# Altium integrated library Linear Technology Power Management LDO Linear Regulators.IntLib: 2339 symbols (part 127 of 131)
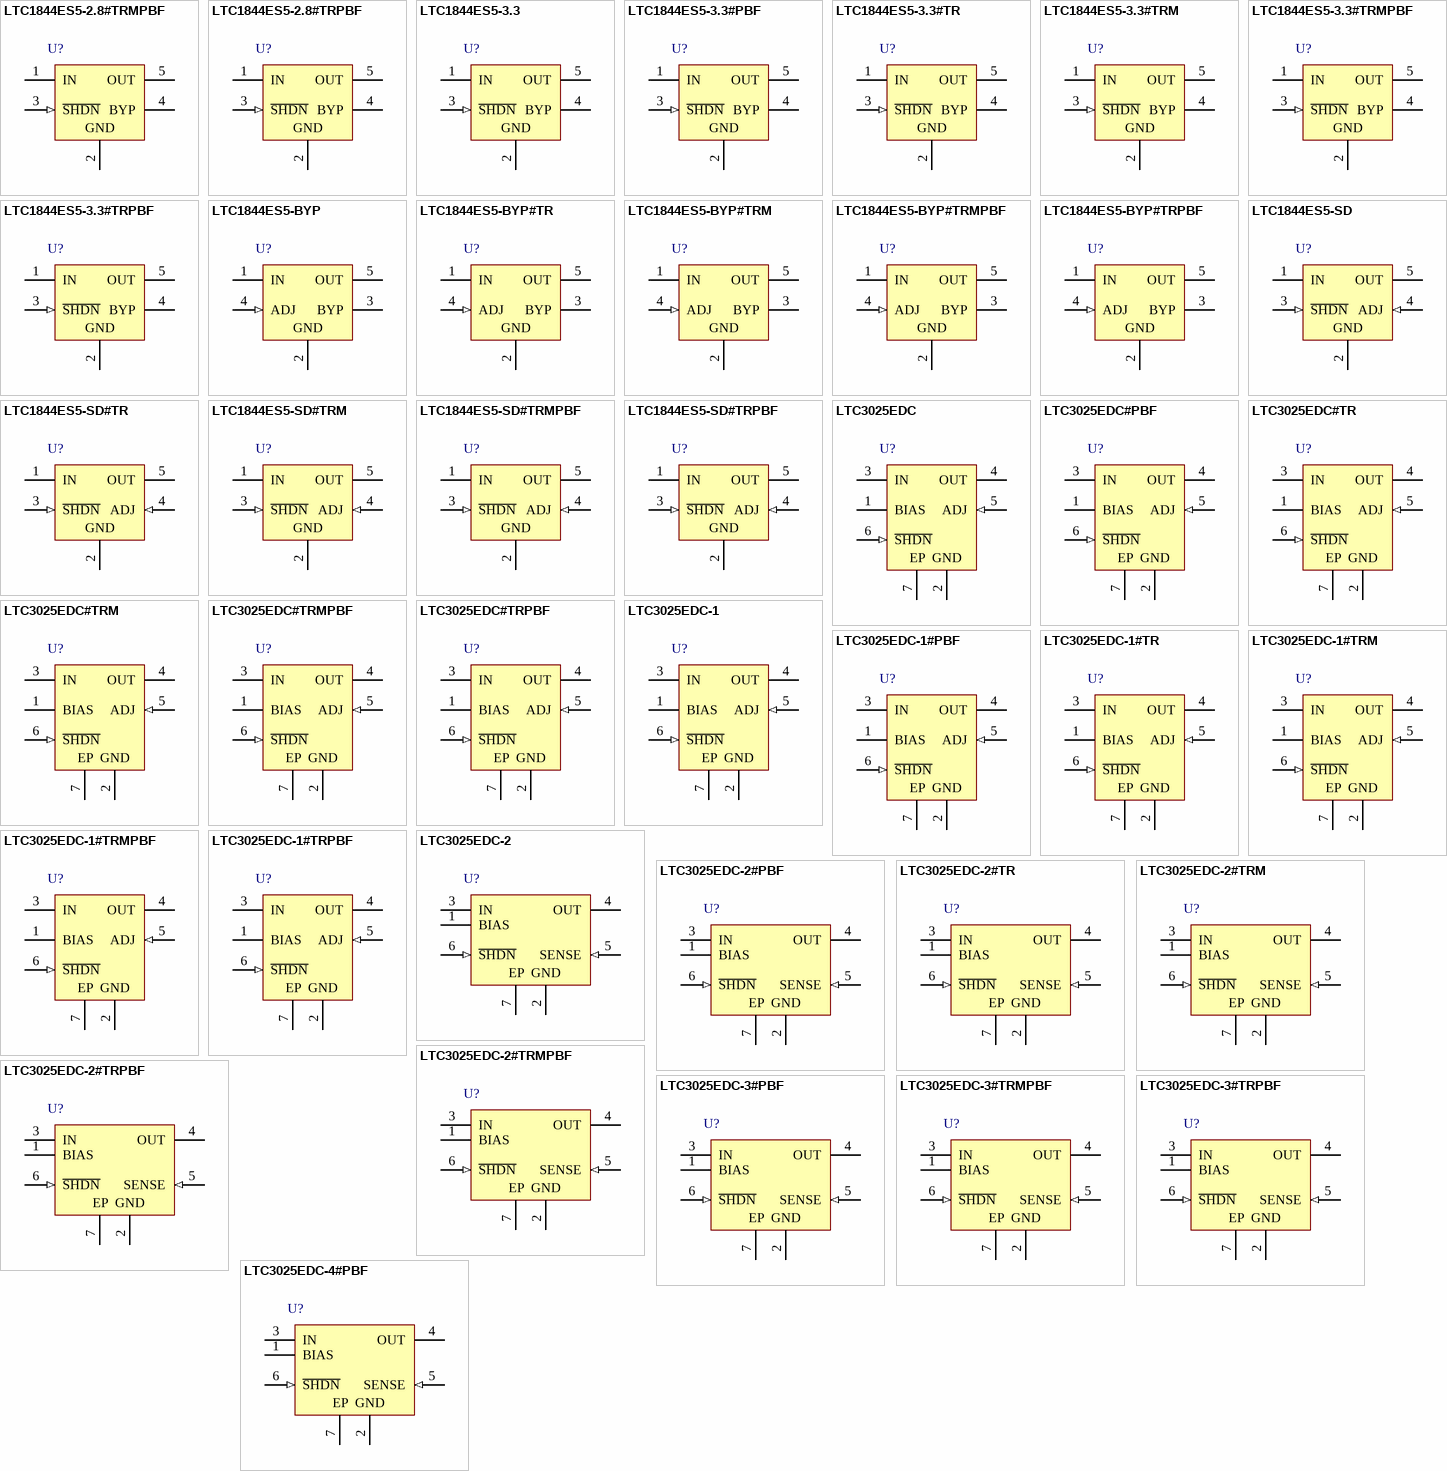
[diagram p195: symbols LTC1844ES5-2.8#TRMPBF to LTC3025EDC-4#PBF]

## LTC1844ES5-SD#TRPBF
designator U?
150 mA, Micropower, Low Noise, VLDO Linear Regulator, 1.6 to 6.5 V Vin, Adjustable Vout, 5-pin SOT23 (S5-5), -40 to 125 degC, Pb-Free, Tape and Reel; Manufacturer: Linear Technology; PartNumber: LTC1844ES5-SD#TRPBF; Discrete Pass Element: no; Dropout Voltage(V): 0.135; Iout(mA): 150; Isupply(mA): 0.035; Noise(uV): 60; Number of Outputs: 1; Output Voltage: Adj; PSRR(dB): 50; Shutdown Current(uA): 0.01; Vin Max(V): 6.5; Vin Min(V): 1.6; Vout Max(V): 6; Vout Min(V): 1.25; DatasheetVersion: Rev. A; PackageVersion: Jun-10; PackageReference: S5-5; PackageDescription: 5-Pin Plastic TSOT-23, Body 1.63 x 2.90 mm, Pitch 0.95 mm; Supplier 1: Digi-Key; Supplier Part Number 1: LTC1844ES5-SD#TRPBF-ND; Supplier 2: Newark; Supplier Part Number 2: 56M3912; Packing: Tape and Reel; RoHS: TRUE; Mounting Technology: Surface Mount; Code_JEDEC: MO-193; ComponentLink1Description: Manufacturer URL; ComponentLink1URL: http://www.linear.com/; ComponentLink2Description: Datasheet; ComponentLink2URL: http://cds.linear.com/docs/en/datasheet/1844fa.pdf; ComponentLink3Description: Package Specification; ComponentLink3URL: http://cds.linear.com/docs/en/packaging/SOT_5_05-08-1635.pdf
footprint LT-S5-5-TSOT-23_N (SOT23, 5-Leads, Body 2.90x1.63mm, Pitch 0.95mm, IPC Medium Density)
footprint LT-S5-5-TSOT-23_L (SOT23, 5-Leads, Body 2.90x1.63mm, Pitch 0.95mm, IPC High Density)
footprint LT-S5-5-TSOT-23_M (SOT23, 5-Leads, Body 2.90x1.63mm, Pitch 0.95mm, IPC Low Density)
pins: 1 IN (power), 2 GND (power), 3 ~{SHDN} (in), 4 ADJ (in), 5 OUT (power)

## LTC3025EDC
designator U?
300 mA Micropower VLDO Linear Regulator, 0.9 to 5.5 V Vin, Adjustable Vout, 6-pin SON (DC6-6), -40 to 125 degC; Manufacturer: Linear Technology; PartNumber: LTC3025EDC; Discrete Pass Element: no; Dropout Voltage(V): 0.045; Iout(mA): 300; Isupply(mA): 0.054; Noise(uV): 80; Number of Outputs: 1; Output Voltage: Adj; Vin Max(V): 5.5; Vin Min(V): 0.9; Vout Max(V): 3.6; Vout Min(V): 0.4; DatasheetVersion: Rev. D; PackageVersion: Rev. B, 06/2010; PackageReference: DC6-6; PackageDescription: 6-Pin Plastic DFN, Body 2 x 2 mm, Pitch 0.5 mm; RoHS: FALSE; Shutdown Current(uA): 1; Mounting Technology: Surface Mount; Code_JEDEC: MO-229; ComponentLink1Description: Manufacturer URL; ComponentLink1URL: http://www.linear.com/; ComponentLink2Description: Datasheet; ComponentLink2URL: http://cds.linear.com/docs/en/datasheet/3025fd.pdf; ComponentLink3Description: Package Specification; ComponentLink3URL: http://cds.linear.com/docs/en/packaging/DFN_6_05-08-1703.pdf
footprint LT-DC6-6_V (SON, 6-Leads, Body 2x2mm, Pitch 0.5mm, Thermal Pad 1.42x0.61mm)
pins: 1 BIAS (power) "BIAS Input Voltage. BIAS provides internal power for LTC3025 circuitry. The BIAS pin should be locally bypassed to ground if the LTC3025 is more than a few inches away from another source of bulk capacitance. In general, the (See Datasheet)", 2 GND (power) "Ground. Connect to a ground plane.", 3 IN (power) "Input Supply Voltage. The output load current is supplied directly from IN. The IN pin should be locally bypassed to ground if the LTC3025 is more than a few inches away from another source of bulk capacitance. In general, (See Datasheet)", 4 OUT (power) "Regulated Output Voltage. The OUT pin supplies power to the load. A minimum ceramic output capacitor of at least 1uF is required to ensure stability. Larger output capacitors may be required for applications with large (See Datasheet)", 5 ADJ (in) "Adjust Input. This is the input to the error amplifier. The ADJ pin reference voltage is 0.4V referenced to ground. The output voltage range is 0.4V to 3.6V and is typically set by connecting ADJ to a resistor divider from (See Datasheet)", 6 ~{SHDN} (in) "Shutdown Input, Active Low. This pin is used to put the LTC3025 into shutdown. The S\H\D\N\ pin current is typically less than 10nA. The S\H\D\N\ pin cannot be left floating and must be tied to a valid logic level (such as (See Datasheet)", 7 EP (power) "Ground and Heat Sink. Must be soldered to PCB ground plane or large pad for optimal thermal performance."

## LTC3025EDC#PBF
designator U?
300 mA Micropower VLDO Linear Regulator, 0.9 to 5.5 V Vin, Adjustable Vout, 6-pin SON (DC6-6), -40 to 125 degC, Pb-Free; Manufacturer: Linear Technology; PartNumber: LTC3025EDC#PBF; Discrete Pass Element: no; Dropout Voltage(V): 0.045; Iout(mA): 300; Isupply(mA): 0.054; Noise(uV): 80; Number of Outputs: 1; Output Voltage: Adj; Vin Max(V): 5.5; Vin Min(V): 0.9; Vout Max(V): 3.6; Vout Min(V): 0.4; DatasheetVersion: Rev. D; PackageVersion: Rev. B, 06/2010; PackageReference: DC6-6; PackageDescription: 6-Pin Plastic DFN, Body 2 x 2 mm, Pitch 0.5 mm; Supplier 1: Farnell; Supplier Part Number 1: 2128791; Supplier 2: Newark; Supplier Part Number 2: 78T3135; RoHS: TRUE; Shutdown Current(uA): 1; Mounting Technology: Surface Mount; Code_JEDEC: MO-229; ComponentLink1Description: Manufacturer URL; ComponentLink1URL: http://www.linear.com/; ComponentLink2Description: Datasheet; ComponentLink2URL: http://cds.linear.com/docs/en/datasheet/3025fd.pdf; ComponentLink3Description: Package Specification; ComponentLink3URL: http://cds.linear.com/docs/en/packaging/DFN_6_05-08-1703.pdf
footprint LT-DC6-6_V (SON, 6-Leads, Body 2x2mm, Pitch 0.5mm, Thermal Pad 1.42x0.61mm)
pins: 1 BIAS (power) "BIAS Input Voltage. BIAS provides internal power for LTC3025 circuitry. The BIAS pin should be locally bypassed to ground if the LTC3025 is more than a few inches away from another source of bulk capacitance. In general, the (See Datasheet)", 2 GND (power) "Ground. Connect to a ground plane.", 3 IN (power) "Input Supply Voltage. The output load current is supplied directly from IN. The IN pin should be locally bypassed to ground if the LTC3025 is more than a few inches away from another source of bulk capacitance. In general, (See Datasheet)", 4 OUT (power) "Regulated Output Voltage. The OUT pin supplies power to the load. A minimum ceramic output capacitor of at least 1uF is required to ensure stability. Larger output capacitors may be required for applications with large (See Datasheet)", 5 ADJ (in) "Adjust Input. This is the input to the error amplifier. The ADJ pin reference voltage is 0.4V referenced to ground. The output voltage range is 0.4V to 3.6V and is typically set by connecting ADJ to a resistor divider from (See Datasheet)", 6 ~{SHDN} (in) "Shutdown Input, Active Low. This pin is used to put the LTC3025 into shutdown. The S\H\D\N\ pin current is typically less than 10nA. The S\H\D\N\ pin cannot be left floating and must be tied to a valid logic level (such as (See Datasheet)", 7 EP (power) "Ground and Heat Sink. Must be soldered to PCB ground plane or large pad for optimal thermal performance."

## LTC3025EDC#TR
designator U?
300 mA Micropower VLDO Linear Regulator, 0.9 to 5.5 V Vin, Adjustable Vout, 6-pin SON (DC6-6), -40 to 125 degC, Tape and Reel; Manufacturer: Linear Technology; PartNumber: LTC3025EDC#TR; Discrete Pass Element: no; Dropout Voltage(V): 0.045; Iout(mA): 300; Isupply(mA): 0.054; Noise(uV): 80; Number of Outputs: 1; Output Voltage: Adj; Vin Max(V): 5.5; Vin Min(V): 0.9; Vout Max(V): 3.6; Vout Min(V): 0.4; DatasheetVersion: Rev. D; PackageVersion: Rev. B, 06/2010; PackageReference: DC6-6; PackageDescription: 6-Pin Plastic DFN, Body 2 x 2 mm, Pitch 0.5 mm; Supplier 1: Digi-Key; Supplier Part Number 1: LTC3025EDC#TR-ND; Supplier 2: Newark; Supplier Part Number 2: 56M7301; Packing: Tape and Reel; RoHS: FALSE; Shutdown Current(uA): 1; Mounting Technology: Surface Mount; Code_JEDEC: MO-229; ComponentLink1Description: Manufacturer URL; ComponentLink1URL: http://www.linear.com/; ComponentLink2Description: Datasheet; ComponentLink2URL: http://cds.linear.com/docs/en/datasheet/3025fd.pdf; ComponentLink3Description: Package Specification; ComponentLink3URL: http://cds.linear.com/docs/en/packaging/DFN_6_05-08-1703.pdf
footprint LT-DC6-6_V (SON, 6-Leads, Body 2x2mm, Pitch 0.5mm, Thermal Pad 1.42x0.61mm)
pins: 1 BIAS (power) "BIAS Input Voltage. BIAS provides internal power for LTC3025 circuitry. The BIAS pin should be locally bypassed to ground if the LTC3025 is more than a few inches away from another source of bulk capacitance. In general, the (See Datasheet)", 2 GND (power) "Ground. Connect to a ground plane.", 3 IN (power) "Input Supply Voltage. The output load current is supplied directly from IN. The IN pin should be locally bypassed to ground if the LTC3025 is more than a few inches away from another source of bulk capacitance. In general, (See Datasheet)", 4 OUT (power) "Regulated Output Voltage. The OUT pin supplies power to the load. A minimum ceramic output capacitor of at least 1uF is required to ensure stability. Larger output capacitors may be required for applications with large (See Datasheet)", 5 ADJ (in) "Adjust Input. This is the input to the error amplifier. The ADJ pin reference voltage is 0.4V referenced to ground. The output voltage range is 0.4V to 3.6V and is typically set by connecting ADJ to a resistor divider from (See Datasheet)", 6 ~{SHDN} (in) "Shutdown Input, Active Low. This pin is used to put the LTC3025 into shutdown. The S\H\D\N\ pin current is typically less than 10nA. The S\H\D\N\ pin cannot be left floating and must be tied to a valid logic level (such as (See Datasheet)", 7 EP (power) "Ground and Heat Sink. Must be soldered to PCB ground plane or large pad for optimal thermal performance."

## LTC3025EDC#TRM
designator U?
300 mA Micropower VLDO Linear Regulator, 0.9 to 5.5 V Vin, Adjustable Vout, 6-pin SON (DC6-6), -40 to 125 degC, Mini Tape and Reel; Manufacturer: Linear Technology; PartNumber: LTC3025EDC#TRM; Discrete Pass Element: no; Dropout Voltage(V): 0.045; Iout(mA): 300; Isupply(mA): 0.054; Noise(uV): 80; Number of Outputs: 1; Output Voltage: Adj; Vin Max(V): 5.5; Vin Min(V): 0.9; Vout Max(V): 3.6; Vout Min(V): 0.4; DatasheetVersion: Rev. D; PackageVersion: Rev. B, 06/2010; PackageReference: DC6-6; PackageDescription: 6-Pin Plastic DFN, Body 2 x 2 mm, Pitch 0.5 mm; Supplier 1: Digi-Key; Supplier Part Number 1: LTC3025EDC#TRM-ND; Supplier 2: Newark; Supplier Part Number 2: 56M7302; Packing: Mini Tape and Reel; RoHS: FALSE; Shutdown Current(uA): 1; Mounting Technology: Surface Mount; Code_JEDEC: MO-229; ComponentLink1Description: Manufacturer URL; ComponentLink1URL: http://www.linear.com/; ComponentLink2Description: Datasheet; ComponentLink2URL: http://cds.linear.com/docs/en/datasheet/3025fd.pdf; ComponentLink3Description: Package Specification; ComponentLink3URL: http://cds.linear.com/docs/en/packaging/DFN_6_05-08-1703.pdf
footprint LT-DC6-6_V (SON, 6-Leads, Body 2x2mm, Pitch 0.5mm, Thermal Pad 1.42x0.61mm)
pins: 1 BIAS (power) "BIAS Input Voltage. BIAS provides internal power for LTC3025 circuitry. The BIAS pin should be locally bypassed to ground if the LTC3025 is more than a few inches away from another source of bulk capacitance. In general, the (See Datasheet)", 2 GND (power) "Ground. Connect to a ground plane.", 3 IN (power) "Input Supply Voltage. The output load current is supplied directly from IN. The IN pin should be locally bypassed to ground if the LTC3025 is more than a few inches away from another source of bulk capacitance. In general, (See Datasheet)", 4 OUT (power) "Regulated Output Voltage. The OUT pin supplies power to the load. A minimum ceramic output capacitor of at least 1uF is required to ensure stability. Larger output capacitors may be required for applications with large (See Datasheet)", 5 ADJ (in) "Adjust Input. This is the input to the error amplifier. The ADJ pin reference voltage is 0.4V referenced to ground. The output voltage range is 0.4V to 3.6V and is typically set by connecting ADJ to a resistor divider from (See Datasheet)", 6 ~{SHDN} (in) "Shutdown Input, Active Low. This pin is used to put the LTC3025 into shutdown. The S\H\D\N\ pin current is typically less than 10nA. The S\H\D\N\ pin cannot be left floating and must be tied to a valid logic level (such as (See Datasheet)", 7 EP (power) "Ground and Heat Sink. Must be soldered to PCB ground plane or large pad for optimal thermal performance."

## LTC3025EDC#TRMPBF
designator U?
300 mA Micropower VLDO Linear Regulator, 0.9 to 5.5 V Vin, Adjustable Vout, 6-pin SON (DC6-6), -40 to 125 degC, Pb-Free, Mini Tape and Reel; Manufacturer: Linear Technology; PartNumber: LTC3025EDC#TRMPBF; Discrete Pass Element: no; Dropout Voltage(V): 0.045; Iout(mA): 300; Isupply(mA): 0.054; Noise(uV): 80; Number of Outputs: 1; Output Voltage: Adj; Vin Max(V): 5.5; Vin Min(V): 0.9; Vout Max(V): 3.6; Vout Min(V): 0.4; DatasheetVersion: Rev. D; PackageVersion: Rev. B, 06/2010; PackageReference: DC6-6; PackageDescription: 6-Pin Plastic DFN, Body 2 x 2 mm, Pitch 0.5 mm; Supplier 1: Digi-Key; Supplier Part Number 1: LTC3025EDC#TRMPBFTR-ND; Supplier 2: Digi-Key; Supplier Part Number 2: LTC3025EDC#TRMPBFCT-ND; Supplier 3: Digi-Key; Supplier Part Number 3: LTC3025EDC#TRMPBFDKR-ND; Supplier 4: Newark; Supplier Part Number 4: 56M7303; Packing: Mini Tape and Reel; RoHS: TRUE; Shutdown Current(uA): 1; Mounting Technology: Surface Mount; Code_JEDEC: MO-229; ComponentLink1Description: Manufacturer URL; ComponentLink1URL: http://www.linear.com/; ComponentLink2Description: Datasheet; ComponentLink2URL: http://cds.linear.com/docs/en/datasheet/3025fd.pdf; ComponentLink3Description: Package Specification; ComponentLink3URL: http://cds.linear.com/docs/en/packaging/DFN_6_05-08-1703.pdf
footprint LT-DC6-6_V (SON, 6-Leads, Body 2x2mm, Pitch 0.5mm, Thermal Pad 1.42x0.61mm)
pins: 1 BIAS (power) "BIAS Input Voltage. BIAS provides internal power for LTC3025 circuitry. The BIAS pin should be locally bypassed to ground if the LTC3025 is more than a few inches away from another source of bulk capacitance. In general, the (See Datasheet)", 2 GND (power) "Ground. Connect to a ground plane.", 3 IN (power) "Input Supply Voltage. The output load current is supplied directly from IN. The IN pin should be locally bypassed to ground if the LTC3025 is more than a few inches away from another source of bulk capacitance. In general, (See Datasheet)", 4 OUT (power) "Regulated Output Voltage. The OUT pin supplies power to the load. A minimum ceramic output capacitor of at least 1uF is required to ensure stability. Larger output capacitors may be required for applications with large (See Datasheet)", 5 ADJ (in) "Adjust Input. This is the input to the error amplifier. The ADJ pin reference voltage is 0.4V referenced to ground. The output voltage range is 0.4V to 3.6V and is typically set by connecting ADJ to a resistor divider from (See Datasheet)", 6 ~{SHDN} (in) "Shutdown Input, Active Low. This pin is used to put the LTC3025 into shutdown. The S\H\D\N\ pin current is typically less than 10nA. The S\H\D\N\ pin cannot be left floating and must be tied to a valid logic level (such as (See Datasheet)", 7 EP (power) "Ground and Heat Sink. Must be soldered to PCB ground plane or large pad for optimal thermal performance."

## LTC3025EDC#TRPBF
designator U?
300 mA Micropower VLDO Linear Regulator, 0.9 to 5.5 V Vin, Adjustable Vout, 6-pin SON (DC6-6), -40 to 125 degC, Pb-Free, Tape and Reel; Manufacturer: Linear Technology; PartNumber: LTC3025EDC#TRPBF; Discrete Pass Element: no; Dropout Voltage(V): 0.045; Iout(mA): 300; Isupply(mA): 0.054; Noise(uV): 80; Number of Outputs: 1; Output Voltage: Adj; Vin Max(V): 5.5; Vin Min(V): 0.9; Vout Max(V): 3.6; Vout Min(V): 0.4; DatasheetVersion: Rev. D; PackageVersion: Rev. B, 06/2010; PackageReference: DC6-6; PackageDescription: 6-Pin Plastic DFN, Body 2 x 2 mm, Pitch 0.5 mm; Supplier 1: Digi-Key; Supplier Part Number 1: LTC3025EDC#TRPBF-ND; Supplier 2: Newark; Supplier Part Number 2: 56M7304; Packing: Tape and Reel; RoHS: TRUE; Shutdown Current(uA): 1; Mounting Technology: Surface Mount; Code_JEDEC: MO-229; ComponentLink1Description: Manufacturer URL; ComponentLink1URL: http://www.linear.com/; ComponentLink2Description: Datasheet; ComponentLink2URL: http://cds.linear.com/docs/en/datasheet/3025fd.pdf; ComponentLink3Description: Package Specification; ComponentLink3URL: http://cds.linear.com/docs/en/packaging/DFN_6_05-08-1703.pdf
footprint LT-DC6-6_V (SON, 6-Leads, Body 2x2mm, Pitch 0.5mm, Thermal Pad 1.42x0.61mm)
pins: 1 BIAS (power) "BIAS Input Voltage. BIAS provides internal power for LTC3025 circuitry. The BIAS pin should be locally bypassed to ground if the LTC3025 is more than a few inches away from another source of bulk capacitance. In general, the (See Datasheet)", 2 GND (power) "Ground. Connect to a ground plane.", 3 IN (power) "Input Supply Voltage. The output load current is supplied directly from IN. The IN pin should be locally bypassed to ground if the LTC3025 is more than a few inches away from another source of bulk capacitance. In general, (See Datasheet)", 4 OUT (power) "Regulated Output Voltage. The OUT pin supplies power to the load. A minimum ceramic output capacitor of at least 1uF is required to ensure stability. Larger output capacitors may be required for applications with large (See Datasheet)", 5 ADJ (in) "Adjust Input. This is the input to the error amplifier. The ADJ pin reference voltage is 0.4V referenced to ground. The output voltage range is 0.4V to 3.6V and is typically set by connecting ADJ to a resistor divider from (See Datasheet)", 6 ~{SHDN} (in) "Shutdown Input, Active Low. This pin is used to put the LTC3025 into shutdown. The S\H\D\N\ pin current is typically less than 10nA. The S\H\D\N\ pin cannot be left floating and must be tied to a valid logic level (such as (See Datasheet)", 7 EP (power) "Ground and Heat Sink. Must be soldered to PCB ground plane or large pad for optimal thermal performance."

## LTC3025EDC-1
designator U?
500 mA Micropower VLDO Linear Regulator, 0.9 to 5.5 V Vin, Adjustable Vout, 6-pin SON (DC6-6), -40 to 125 degC; Manufacturer: Linear Technology; PartNumber: LTC3025EDC-1; Discrete Pass Element: no; Dropout Voltage(V): 0.085; Iout(mA): 500; Isupply(mA): 0.05; Noise(uV): 80; Number of Outputs: 1; Output Voltage: Adj; Vin Max(V): 5.5; Vin Min(V): 0.9; Vout Max(V): 3.6; Vout Min(V): 0.4; DatasheetVersion: Rev. F; PackageVersion: Rev. B, 06/2010; PackageReference: DC6-6; PackageDescription: 6-Pin Plastic DFN, Body 2 x 2 mm, Pitch 0.5 mm; RoHS: FALSE; Shutdown Current(uA): 1; Mounting Technology: Surface Mount; Code_JEDEC: MO-229; ComponentLink1Description: Manufacturer URL; ComponentLink1URL: http://www.linear.com/; ComponentLink2Description: Datasheet; ComponentLink2URL: http://cds.linear.com/docs/en/datasheet/30251234ff.pdf; ComponentLink3Description: Package Specification; ComponentLink3URL: http://cds.linear.com/docs/en/packaging/DFN_6_05-08-1703.pdf
footprint LT-DC6-6_V (SON, 6-Leads, Body 2x2mm, Pitch 0.5mm, Thermal Pad 1.42x0.61mm)
pins: 1 BIAS (power) "BIAS Input Voltage. BIAS provides internal power for LTC3025 circuitry. The BIAS pin should be locally bypassed to ground if the LTC3025 is more than a few inches away from another source of bulk capacitance. In general, the (See Datasheet)", 2 GND (power) "Ground. Connect to a ground plane.", 3 IN (power) "Input Supply Voltage. The output load current is supplied directly from IN. The IN pin should be locally bypassed to ground if the LTC3025 is more than a few inches away from another source of bulk capacitance. In general, (See Datasheet)", 4 OUT (power) "Regulated Output Voltage. The OUT pin supplies power to the load. A minimum ceramic output capacitor of at least 1uF is required to ensure stability. Larger output capacitors may be required for applications with large (See Datasheet)", 5 ADJ (in) "Adjust Input. This is the input to the error amplifier. The ADJ pin reference voltage is 0.4V referenced to ground. The output voltage range is 0.4V to 3.6V and is typically set by connecting ADJ to a resistor divider from (See Datasheet)", 6 ~{SHDN} (in) "Shutdown Input, Active Low. This pin is used to put the LTC3025 into shutdown. The S\H\D\N\ pin current is typically less than 10nA. The S\H\D\N\ pin cannot be left floating and must be tied to a valid logic level (such as (See Datasheet)", 7 EP (power) "Ground and Heat Sink. Must be soldered to PCB ground plane or large pad for optimal thermal performance."

## LTC3025EDC-1#PBF
designator U?
500 mA Micropower VLDO Linear Regulator, 0.9 to 5.5 V Vin, Adjustable Vout, 6-pin SON (DC6-6), -40 to 125 degC, Pb-Free; Manufacturer: Linear Technology; PartNumber: LTC3025EDC-1#PBF; Discrete Pass Element: no; Dropout Voltage(V): 0.085; Iout(mA): 500; Isupply(mA): 0.05; Noise(uV): 80; Number of Outputs: 1; Output Voltage: Adj; Vin Max(V): 5.5; Vin Min(V): 0.9; Vout Max(V): 3.6; Vout Min(V): 0.4; DatasheetVersion: Rev. F; PackageVersion: Rev. B, 06/2010; PackageReference: DC6-6; PackageDescription: 6-Pin Plastic DFN, Body 2 x 2 mm, Pitch 0.5 mm; Supplier 1: Newark; Supplier Part Number 1: 78T3132; RoHS: TRUE; Shutdown Current(uA): 1; Mounting Technology: Surface Mount; Code_JEDEC: MO-229; ComponentLink1Description: Manufacturer URL; ComponentLink1URL: http://www.linear.com/; ComponentLink2Description: Datasheet; ComponentLink2URL: http://cds.linear.com/docs/en/datasheet/30251234ff.pdf; ComponentLink3Description: Package Specification; ComponentLink3URL: http://cds.linear.com/docs/en/packaging/DFN_6_05-08-1703.pdf
footprint LT-DC6-6_V (SON, 6-Leads, Body 2x2mm, Pitch 0.5mm, Thermal Pad 1.42x0.61mm)
pins: 1 BIAS (power) "BIAS Input Voltage. BIAS provides internal power for LTC3025 circuitry. The BIAS pin should be locally bypassed to ground if the LTC3025 is more than a few inches away from another source of bulk capacitance. In general, the (See Datasheet)", 2 GND (power) "Ground. Connect to a ground plane.", 3 IN (power) "Input Supply Voltage. The output load current is supplied directly from IN. The IN pin should be locally bypassed to ground if the LTC3025 is more than a few inches away from another source of bulk capacitance. In general, (See Datasheet)", 4 OUT (power) "Regulated Output Voltage. The OUT pin supplies power to the load. A minimum ceramic output capacitor of at least 1uF is required to ensure stability. Larger output capacitors may be required for applications with large (See Datasheet)", 5 ADJ (in) "Adjust Input. This is the input to the error amplifier. The ADJ pin reference voltage is 0.4V referenced to ground. The output voltage range is 0.4V to 3.6V and is typically set by connecting ADJ to a resistor divider from (See Datasheet)", 6 ~{SHDN} (in) "Shutdown Input, Active Low. This pin is used to put the LTC3025 into shutdown. The S\H\D\N\ pin current is typically less than 10nA. The S\H\D\N\ pin cannot be left floating and must be tied to a valid logic level (such as (See Datasheet)", 7 EP (power) "Ground and Heat Sink. Must be soldered to PCB ground plane or large pad for optimal thermal performance."

## LTC3025EDC-1#TR
designator U?
500 mA Micropower VLDO Linear Regulator, 0.9 to 5.5 V Vin, Adjustable Vout, 6-pin SON (DC6-6), -40 to 125 degC, Tape and Reel; Manufacturer: Linear Technology; PartNumber: LTC3025EDC-1#TR; Discrete Pass Element: no; Dropout Voltage(V): 0.085; Iout(mA): 500; Isupply(mA): 0.05; Noise(uV): 80; Number of Outputs: 1; Output Voltage: Adj; Vin Max(V): 5.5; Vin Min(V): 0.9; Vout Max(V): 3.6; Vout Min(V): 0.4; DatasheetVersion: Rev. F; PackageVersion: Rev. B, 06/2010; PackageReference: DC6-6; PackageDescription: 6-Pin Plastic DFN, Body 2 x 2 mm, Pitch 0.5 mm; Packing: Tape and Reel; RoHS: FALSE; Shutdown Current(uA): 1; Mounting Technology: Surface Mount; Code_JEDEC: MO-229; ComponentLink1Description: Manufacturer URL; ComponentLink1URL: http://www.linear.com/; ComponentLink2Description: Datasheet; ComponentLink2URL: http://cds.linear.com/docs/en/datasheet/30251234ff.pdf; ComponentLink3Description: Package Specification; ComponentLink3URL: http://cds.linear.com/docs/en/packaging/DFN_6_05-08-1703.pdf
footprint LT-DC6-6_V (SON, 6-Leads, Body 2x2mm, Pitch 0.5mm, Thermal Pad 1.42x0.61mm)
pins: 1 BIAS (power) "BIAS Input Voltage. BIAS provides internal power for LTC3025 circuitry. The BIAS pin should be locally bypassed to ground if the LTC3025 is more than a few inches away from another source of bulk capacitance. In general, the (See Datasheet)", 2 GND (power) "Ground. Connect to a ground plane.", 3 IN (power) "Input Supply Voltage. The output load current is supplied directly from IN. The IN pin should be locally bypassed to ground if the LTC3025 is more than a few inches away from another source of bulk capacitance. In general, (See Datasheet)", 4 OUT (power) "Regulated Output Voltage. The OUT pin supplies power to the load. A minimum ceramic output capacitor of at least 1uF is required to ensure stability. Larger output capacitors may be required for applications with large (See Datasheet)", 5 ADJ (in) "Adjust Input. This is the input to the error amplifier. The ADJ pin reference voltage is 0.4V referenced to ground. The output voltage range is 0.4V to 3.6V and is typically set by connecting ADJ to a resistor divider from (See Datasheet)", 6 ~{SHDN} (in) "Shutdown Input, Active Low. This pin is used to put the LTC3025 into shutdown. The S\H\D\N\ pin current is typically less than 10nA. The S\H\D\N\ pin cannot be left floating and must be tied to a valid logic level (such as (See Datasheet)", 7 EP (power) "Ground and Heat Sink. Must be soldered to PCB ground plane or large pad for optimal thermal performance."

## LTC3025EDC-1#TRM
designator U?
500 mA Micropower VLDO Linear Regulator, 0.9 to 5.5 V Vin, Adjustable Vout, 6-pin SON (DC6-6), -40 to 125 degC, Mini Tape and Reel; Manufacturer: Linear Technology; PartNumber: LTC3025EDC-1#TRM; Discrete Pass Element: no; Dropout Voltage(V): 0.085; Iout(mA): 500; Isupply(mA): 0.05; Noise(uV): 80; Number of Outputs: 1; Output Voltage: Adj; Vin Max(V): 5.5; Vin Min(V): 0.9; Vout Max(V): 3.6; Vout Min(V): 0.4; DatasheetVersion: Rev. F; PackageVersion: Rev. B, 06/2010; PackageReference: DC6-6; PackageDescription: 6-Pin Plastic DFN, Body 2 x 2 mm, Pitch 0.5 mm; Packing: Mini Tape and Reel; RoHS: FALSE; Shutdown Current(uA): 1; Mounting Technology: Surface Mount; Code_JEDEC: MO-229; ComponentLink1Description: Manufacturer URL; ComponentLink1URL: http://www.linear.com/; ComponentLink2Description: Datasheet; ComponentLink2URL: http://cds.linear.com/docs/en/datasheet/30251234ff.pdf; ComponentLink3Description: Package Specification; ComponentLink3URL: http://cds.linear.com/docs/en/packaging/DFN_6_05-08-1703.pdf
footprint LT-DC6-6_V (SON, 6-Leads, Body 2x2mm, Pitch 0.5mm, Thermal Pad 1.42x0.61mm)
pins: 1 BIAS (power) "BIAS Input Voltage. BIAS provides internal power for LTC3025 circuitry. The BIAS pin should be locally bypassed to ground if the LTC3025 is more than a few inches away from another source of bulk capacitance. In general, the (See Datasheet)", 2 GND (power) "Ground. Connect to a ground plane.", 3 IN (power) "Input Supply Voltage. The output load current is supplied directly from IN. The IN pin should be locally bypassed to ground if the LTC3025 is more than a few inches away from another source of bulk capacitance. In general, (See Datasheet)", 4 OUT (power) "Regulated Output Voltage. The OUT pin supplies power to the load. A minimum ceramic output capacitor of at least 1uF is required to ensure stability. Larger output capacitors may be required for applications with large (See Datasheet)", 5 ADJ (in) "Adjust Input. This is the input to the error amplifier. The ADJ pin reference voltage is 0.4V referenced to ground. The output voltage range is 0.4V to 3.6V and is typically set by connecting ADJ to a resistor divider from (See Datasheet)", 6 ~{SHDN} (in) "Shutdown Input, Active Low. This pin is used to put the LTC3025 into shutdown. The S\H\D\N\ pin current is typically less than 10nA. The S\H\D\N\ pin cannot be left floating and must be tied to a valid logic level (such as (See Datasheet)", 7 EP (power) "Ground and Heat Sink. Must be soldered to PCB ground plane or large pad for optimal thermal performance."

## LTC3025EDC-1#TRMPBF
designator U?
500 mA Micropower VLDO Linear Regulator, 0.9 to 5.5 V Vin, Adjustable Vout, 6-pin SON (DC6-6), -40 to 125 degC, Pb-Free, Mini Tape and Reel; Manufacturer: Linear Technology; PartNumber: LTC3025EDC-1#TRMPBF; Discrete Pass Element: no; Dropout Voltage(V): 0.085; Iout(mA): 500; Isupply(mA): 0.05; Noise(uV): 80; Number of Outputs: 1; Output Voltage: Adj; Vin Max(V): 5.5; Vin Min(V): 0.9; Vout Max(V): 3.6; Vout Min(V): 0.4; DatasheetVersion: Rev. F; PackageVersion: Rev. B, 06/2010; PackageReference: DC6-6; PackageDescription: 6-Pin Plastic DFN, Body 2 x 2 mm, Pitch 0.5 mm; Supplier 1: Digi-Key; Supplier Part Number 1: LTC3025EDC-1#TRMPBFTR-ND; Supplier 2: Digi-Key; Supplier Part Number 2: LTC3025EDC-1#TRMPBFCT-ND; Supplier 3: Digi-Key; Supplier Part Number 3: LTC3025EDC-1#TRMPBFDKR-ND; Supplier 4: Newark; Supplier Part Number 4: 56M7299; Packing: Mini Tape and Reel; RoHS: TRUE; Shutdown Current(uA): 1; Mounting Technology: Surface Mount; Code_JEDEC: MO-229; ComponentLink1Description: Manufacturer URL; ComponentLink1URL: http://www.linear.com/; ComponentLink2Description: Datasheet; ComponentLink2URL: http://cds.linear.com/docs/en/datasheet/30251234ff.pdf; ComponentLink3Description: Package Specification; ComponentLink3URL: http://cds.linear.com/docs/en/packaging/DFN_6_05-08-1703.pdf
footprint LT-DC6-6_V (SON, 6-Leads, Body 2x2mm, Pitch 0.5mm, Thermal Pad 1.42x0.61mm)
pins: 1 BIAS (power) "BIAS Input Voltage. BIAS provides internal power for LTC3025 circuitry. The BIAS pin should be locally bypassed to ground if the LTC3025 is more than a few inches away from another source of bulk capacitance. In general, the (See Datasheet)", 2 GND (power) "Ground. Connect to a ground plane.", 3 IN (power) "Input Supply Voltage. The output load current is supplied directly from IN. The IN pin should be locally bypassed to ground if the LTC3025 is more than a few inches away from another source of bulk capacitance. In general, (See Datasheet)", 4 OUT (power) "Regulated Output Voltage. The OUT pin supplies power to the load. A minimum ceramic output capacitor of at least 1uF is required to ensure stability. Larger output capacitors may be required for applications with large (See Datasheet)", 5 ADJ (in) "Adjust Input. This is the input to the error amplifier. The ADJ pin reference voltage is 0.4V referenced to ground. The output voltage range is 0.4V to 3.6V and is typically set by connecting ADJ to a resistor divider from (See Datasheet)", 6 ~{SHDN} (in) "Shutdown Input, Active Low. This pin is used to put the LTC3025 into shutdown. The S\H\D\N\ pin current is typically less than 10nA. The S\H\D\N\ pin cannot be left floating and must be tied to a valid logic level (such as (See Datasheet)", 7 EP (power) "Ground and Heat Sink. Must be soldered to PCB ground plane or large pad for optimal thermal performance."

## LTC3025EDC-1#TRPBF
designator U?
500 mA Micropower VLDO Linear Regulator, 0.9 to 5.5 V Vin, Adjustable Vout, 6-pin SON (DC6-6), -40 to 125 degC, Pb-Free, Tape and Reel; Manufacturer: Linear Technology; PartNumber: LTC3025EDC-1#TRPBF; Discrete Pass Element: no; Dropout Voltage(V): 0.085; Iout(mA): 500; Isupply(mA): 0.05; Noise(uV): 80; Number of Outputs: 1; Output Voltage: Adj; Vin Max(V): 5.5; Vin Min(V): 0.9; Vout Max(V): 3.6; Vout Min(V): 0.4; DatasheetVersion: Rev. F; PackageVersion: Rev. B, 06/2010; PackageReference: DC6-6; PackageDescription: 6-Pin Plastic DFN, Body 2 x 2 mm, Pitch 0.5 mm; Supplier 1: Digi-Key; Supplier Part Number 1: LTC3025EDC-1#TRPBF-ND; Supplier 2: Newark; Supplier Part Number 2: 56M7300; Packing: Tape and Reel; RoHS: TRUE; Shutdown Current(uA): 1; Mounting Technology: Surface Mount; Code_JEDEC: MO-229; ComponentLink1Description: Manufacturer URL; ComponentLink1URL: http://www.linear.com/; ComponentLink2Description: Datasheet; ComponentLink2URL: http://cds.linear.com/docs/en/datasheet/30251234ff.pdf; ComponentLink3Description: Package Specification; ComponentLink3URL: http://cds.linear.com/docs/en/packaging/DFN_6_05-08-1703.pdf
footprint LT-DC6-6_V (SON, 6-Leads, Body 2x2mm, Pitch 0.5mm, Thermal Pad 1.42x0.61mm)
pins: 1 BIAS (power) "BIAS Input Voltage. BIAS provides internal power for LTC3025 circuitry. The BIAS pin should be locally bypassed to ground if the LTC3025 is more than a few inches away from another source of bulk capacitance. In general, the (See Datasheet)", 2 GND (power) "Ground. Connect to a ground plane.", 3 IN (power) "Input Supply Voltage. The output load current is supplied directly from IN. The IN pin should be locally bypassed to ground if the LTC3025 is more than a few inches away from another source of bulk capacitance. In general, (See Datasheet)", 4 OUT (power) "Regulated Output Voltage. The OUT pin supplies power to the load. A minimum ceramic output capacitor of at least 1uF is required to ensure stability. Larger output capacitors may be required for applications with large (See Datasheet)", 5 ADJ (in) "Adjust Input. This is the input to the error amplifier. The ADJ pin reference voltage is 0.4V referenced to ground. The output voltage range is 0.4V to 3.6V and is typically set by connecting ADJ to a resistor divider from (See Datasheet)", 6 ~{SHDN} (in) "Shutdown Input, Active Low. This pin is used to put the LTC3025 into shutdown. The S\H\D\N\ pin current is typically less than 10nA. The S\H\D\N\ pin cannot be left floating and must be tied to a valid logic level (such as (See Datasheet)", 7 EP (power) "Ground and Heat Sink. Must be soldered to PCB ground plane or large pad for optimal thermal performance."

## LTC3025EDC-2
designator U?
500 mA Micropower VLDO Linear Regulator, 1.4 to 5.5 V Vin, 1.2 V Vout, 6-pin SON (DC6-6), -40 to 125 degC; Manufacturer: Linear Technology; PartNumber: LTC3025EDC-2; Discrete Pass Element: no; Dropout Voltage(V): 0.085; Iout(mA): 500; Isupply(mA): 0.05; Noise(uV): 80; Number of Outputs: 1; Output Voltage: 1.2 V; Vin Max(V): 5.5; Vin Min(V): 1.4; DatasheetVersion: Rev. F; PackageVersion: Rev. B, 06/2010; PackageReference: DC6-6; PackageDescription: 6-Pin Plastic DFN, Body 2 x 2 mm, Pitch 0.5 mm; RoHS: FALSE; Shutdown Current(uA): 1; Mounting Technology: Surface Mount; Code_JEDEC: MO-229; ComponentLink1Description: Manufacturer URL; ComponentLink1URL: http://www.linear.com/; ComponentLink2Description: Datasheet; ComponentLink2URL: http://cds.linear.com/docs/en/datasheet/30251234ff.pdf; ComponentLink3Description: Package Specification; ComponentLink3URL: http://cds.linear.com/docs/en/packaging/DFN_6_05-08-1703.pdf
footprint LT-DC6-6_V (SON, 6-Leads, Body 2x2mm, Pitch 0.5mm, Thermal Pad 1.42x0.61mm)
pins: 1 BIAS (power) "BIAS Input Voltage. BIAS provides internal power for LTC3025-X circuitry. The BIAS pin should be locally bypassed to ground if the LTC3025-X is more than a few inches away from another source of bulk capacitance. In general, (See Datasheet)", 2 GND (power) "Ground. Connect to a ground plane.", 3 IN (power) "Input Supply Voltage. The output load current is supplied directly from IN. The IN pin should be locally bypassed to ground if the LTC3025-X is more than a few inches away from another source of bulk capacitance. In general, (See Datasheet)", 4 OUT (power) "Regulated Output Voltage. The OUT pin supplies power to the load. A minimum ceramic output capacitor of at least 1uF is required to ensure stability. Larger output capacitors may be required for applications with large (See Datasheet)", 5 SENSE (in) "Output Sense. The sense is the input to the resistor divider driving the error amplifier. Optimum regulation will be obtained at the point where SENSE is connected to OUT. The SENSE pin bias current is 10uA at the nominal (See Datasheet)", 6 ~{SHDN} (in) "Shutdown Input, Active Low. This pin is used to put the LTC3025-X into shutdown. The S\H\D\N\ pin current is typically less than 10nA. The S\H\D\N\ pin cannot be left floating and must be tied to a valid logic level (such as (See Datasheet)", 7 EP (power) "Ground and Heat Sink. Must be soldered to PCB ground plane or large pad for optimal thermal performance."

## LTC3025EDC-2#PBF
designator U?
500 mA Micropower VLDO Linear Regulator, 1.4 to 5.5 V Vin, 1.2 V Vout, 6-pin SON (DC6-6), -40 to 125 degC, Pb-Free; Manufacturer: Linear Technology; PartNumber: LTC3025EDC-2#PBF; Discrete Pass Element: no; Dropout Voltage(V): 0.085; Iout(mA): 500; Isupply(mA): 0.05; Noise(uV): 80; Number of Outputs: 1; Output Voltage: 1.2 V; Vin Max(V): 5.5; Vin Min(V): 1.4; DatasheetVersion: Rev. F; PackageVersion: Rev. B, 06/2010; PackageReference: DC6-6; PackageDescription: 6-Pin Plastic DFN, Body 2 x 2 mm, Pitch 0.5 mm; Supplier 1: Farnell; Supplier Part Number 1: 1858691; Supplier 2: Newark; Supplier Part Number 2: 60R3214; RoHS: TRUE; Shutdown Current(uA): 1; Mounting Technology: Surface Mount; Code_JEDEC: MO-229; ComponentLink1Description: Manufacturer URL; ComponentLink1URL: http://www.linear.com/; ComponentLink2Description: Datasheet; ComponentLink2URL: http://cds.linear.com/docs/en/datasheet/30251234ff.pdf; ComponentLink3Description: Package Specification; ComponentLink3URL: http://cds.linear.com/docs/en/packaging/DFN_6_05-08-1703.pdf
footprint LT-DC6-6_V (SON, 6-Leads, Body 2x2mm, Pitch 0.5mm, Thermal Pad 1.42x0.61mm)
pins: 1 BIAS (power) "BIAS Input Voltage. BIAS provides internal power for LTC3025-X circuitry. The BIAS pin should be locally bypassed to ground if the LTC3025-X is more than a few inches away from another source of bulk capacitance. In general, (See Datasheet)", 2 GND (power) "Ground. Connect to a ground plane.", 3 IN (power) "Input Supply Voltage. The output load current is supplied directly from IN. The IN pin should be locally bypassed to ground if the LTC3025-X is more than a few inches away from another source of bulk capacitance. In general, (See Datasheet)", 4 OUT (power) "Regulated Output Voltage. The OUT pin supplies power to the load. A minimum ceramic output capacitor of at least 1uF is required to ensure stability. Larger output capacitors may be required for applications with large (See Datasheet)", 5 SENSE (in) "Output Sense. The sense is the input to the resistor divider driving the error amplifier. Optimum regulation will be obtained at the point where SENSE is connected to OUT. The SENSE pin bias current is 10uA at the nominal (See Datasheet)", 6 ~{SHDN} (in) "Shutdown Input, Active Low. This pin is used to put the LTC3025-X into shutdown. The S\H\D\N\ pin current is typically less than 10nA. The S\H\D\N\ pin cannot be left floating and must be tied to a valid logic level (such as (See Datasheet)", 7 EP (power) "Ground and Heat Sink. Must be soldered to PCB ground plane or large pad for optimal thermal performance."

## LTC3025EDC-2#TR
designator U?
500 mA Micropower VLDO Linear Regulator, 1.4 to 5.5 V Vin, 1.2 V Vout, 6-pin SON (DC6-6), -40 to 125 degC, Tape and Reel; Manufacturer: Linear Technology; PartNumber: LTC3025EDC-2#TR; Discrete Pass Element: no; Dropout Voltage(V): 0.085; Iout(mA): 500; Isupply(mA): 0.05; Noise(uV): 80; Number of Outputs: 1; Output Voltage: 1.2 V; Vin Max(V): 5.5; Vin Min(V): 1.4; DatasheetVersion: Rev. F; PackageVersion: Rev. B, 06/2010; PackageReference: DC6-6; PackageDescription: 6-Pin Plastic DFN, Body 2 x 2 mm, Pitch 0.5 mm; Packing: Tape and Reel; RoHS: FALSE; Shutdown Current(uA): 1; Mounting Technology: Surface Mount; Code_JEDEC: MO-229; ComponentLink1Description: Manufacturer URL; ComponentLink1URL: http://www.linear.com/; ComponentLink2Description: Datasheet; ComponentLink2URL: http://cds.linear.com/docs/en/datasheet/30251234ff.pdf; ComponentLink3Description: Package Specification; ComponentLink3URL: http://cds.linear.com/docs/en/packaging/DFN_6_05-08-1703.pdf
footprint LT-DC6-6_V (SON, 6-Leads, Body 2x2mm, Pitch 0.5mm, Thermal Pad 1.42x0.61mm)
pins: 1 BIAS (power) "BIAS Input Voltage. BIAS provides internal power for LTC3025-X circuitry. The BIAS pin should be locally bypassed to ground if the LTC3025-X is more than a few inches away from another source of bulk capacitance. In general, (See Datasheet)", 2 GND (power) "Ground. Connect to a ground plane.", 3 IN (power) "Input Supply Voltage. The output load current is supplied directly from IN. The IN pin should be locally bypassed to ground if the LTC3025-X is more than a few inches away from another source of bulk capacitance. In general, (See Datasheet)", 4 OUT (power) "Regulated Output Voltage. The OUT pin supplies power to the load. A minimum ceramic output capacitor of at least 1uF is required to ensure stability. Larger output capacitors may be required for applications with large (See Datasheet)", 5 SENSE (in) "Output Sense. The sense is the input to the resistor divider driving the error amplifier. Optimum regulation will be obtained at the point where SENSE is connected to OUT. The SENSE pin bias current is 10uA at the nominal (See Datasheet)", 6 ~{SHDN} (in) "Shutdown Input, Active Low. This pin is used to put the LTC3025-X into shutdown. The S\H\D\N\ pin current is typically less than 10nA. The S\H\D\N\ pin cannot be left floating and must be tied to a valid logic level (such as (See Datasheet)", 7 EP (power) "Ground and Heat Sink. Must be soldered to PCB ground plane or large pad for optimal thermal performance."

## LTC3025EDC-2#TRM
designator U?
500 mA Micropower VLDO Linear Regulator, 1.4 to 5.5 V Vin, 1.2 V Vout, 6-pin SON (DC6-6), -40 to 125 degC, Mini Tape and Reel; Manufacturer: Linear Technology; PartNumber: LTC3025EDC-2#TRM; Discrete Pass Element: no; Dropout Voltage(V): 0.085; Iout(mA): 500; Isupply(mA): 0.05; Noise(uV): 80; Number of Outputs: 1; Output Voltage: 1.2 V; Vin Max(V): 5.5; Vin Min(V): 1.4; DatasheetVersion: Rev. F; PackageVersion: Rev. B, 06/2010; PackageReference: DC6-6; PackageDescription: 6-Pin Plastic DFN, Body 2 x 2 mm, Pitch 0.5 mm; Packing: Mini Tape and Reel; RoHS: FALSE; Shutdown Current(uA): 1; Mounting Technology: Surface Mount; Code_JEDEC: MO-229; ComponentLink1Description: Manufacturer URL; ComponentLink1URL: http://www.linear.com/; ComponentLink2Description: Datasheet; ComponentLink2URL: http://cds.linear.com/docs/en/datasheet/30251234ff.pdf; ComponentLink3Description: Package Specification; ComponentLink3URL: http://cds.linear.com/docs/en/packaging/DFN_6_05-08-1703.pdf
footprint LT-DC6-6_V (SON, 6-Leads, Body 2x2mm, Pitch 0.5mm, Thermal Pad 1.42x0.61mm)
pins: 1 BIAS (power) "BIAS Input Voltage. BIAS provides internal power for LTC3025-X circuitry. The BIAS pin should be locally bypassed to ground if the LTC3025-X is more than a few inches away from another source of bulk capacitance. In general, (See Datasheet)", 2 GND (power) "Ground. Connect to a ground plane.", 3 IN (power) "Input Supply Voltage. The output load current is supplied directly from IN. The IN pin should be locally bypassed to ground if the LTC3025-X is more than a few inches away from another source of bulk capacitance. In general, (See Datasheet)", 4 OUT (power) "Regulated Output Voltage. The OUT pin supplies power to the load. A minimum ceramic output capacitor of at least 1uF is required to ensure stability. Larger output capacitors may be required for applications with large (See Datasheet)", 5 SENSE (in) "Output Sense. The sense is the input to the resistor divider driving the error amplifier. Optimum regulation will be obtained at the point where SENSE is connected to OUT. The SENSE pin bias current is 10uA at the nominal (See Datasheet)", 6 ~{SHDN} (in) "Shutdown Input, Active Low. This pin is used to put the LTC3025-X into shutdown. The S\H\D\N\ pin current is typically less than 10nA. The S\H\D\N\ pin cannot be left floating and must be tied to a valid logic level (such as (See Datasheet)", 7 EP (power) "Ground and Heat Sink. Must be soldered to PCB ground plane or large pad for optimal thermal performance."

## LTC3025EDC-2#TRMPBF
designator U?
500 mA Micropower VLDO Linear Regulator, 1.4 to 5.5 V Vin, 1.2 V Vout, 6-pin SON (DC6-6), -40 to 125 degC, Pb-Free, Mini Tape and Reel; Manufacturer: Linear Technology; PartNumber: LTC3025EDC-2#TRMPBF; Discrete Pass Element: no; Dropout Voltage(V): 0.085; Iout(mA): 500; Isupply(mA): 0.05; Noise(uV): 80; Number of Outputs: 1; Output Voltage: 1.2 V; Vin Max(V): 5.5; Vin Min(V): 1.4; DatasheetVersion: Rev. F; PackageVersion: Rev. B, 06/2010; PackageReference: DC6-6; PackageDescription: 6-Pin Plastic DFN, Body 2 x 2 mm, Pitch 0.5 mm; Supplier 1: Digi-Key; Supplier Part Number 1: LTC3025EDC-2#TRMPBFTR-ND; Supplier 2: Digi-Key; Supplier Part Number 2: LTC3025EDC-2#TRMPBFCT-ND; Supplier 3: Digi-Key; Supplier Part Number 3: LTC3025EDC-2#TRMPBFDKR-ND; Supplier 4: Farnell; Supplier Part Number 4: 1663890RL; Supplier 5: Farnell; Supplier Part Number 5: 1663890; Packing: Mini Tape and Reel; RoHS: TRUE; Shutdown Current(uA): 1; Mounting Technology: Surface Mount; Code_JEDEC: MO-229; ComponentLink1Description: Manufacturer URL; ComponentLink1URL: http://www.linear.com/; ComponentLink2Description: Datasheet; ComponentLink2URL: http://cds.linear.com/docs/en/datasheet/30251234ff.pdf; ComponentLink3Description: Package Specification; ComponentLink3URL: http://cds.linear.com/docs/en/packaging/DFN_6_05-08-1703.pdf
footprint LT-DC6-6_V (SON, 6-Leads, Body 2x2mm, Pitch 0.5mm, Thermal Pad 1.42x0.61mm)
pins: 1 BIAS (power) "BIAS Input Voltage. BIAS provides internal power for LTC3025-X circuitry. The BIAS pin should be locally bypassed to ground if the LTC3025-X is more than a few inches away from another source of bulk capacitance. In general, (See Datasheet)", 2 GND (power) "Ground. Connect to a ground plane.", 3 IN (power) "Input Supply Voltage. The output load current is supplied directly from IN. The IN pin should be locally bypassed to ground if the LTC3025-X is more than a few inches away from another source of bulk capacitance. In general, (See Datasheet)", 4 OUT (power) "Regulated Output Voltage. The OUT pin supplies power to the load. A minimum ceramic output capacitor of at least 1uF is required to ensure stability. Larger output capacitors may be required for applications with large (See Datasheet)", 5 SENSE (in) "Output Sense. The sense is the input to the resistor divider driving the error amplifier. Optimum regulation will be obtained at the point where SENSE is connected to OUT. The SENSE pin bias current is 10uA at the nominal (See Datasheet)", 6 ~{SHDN} (in) "Shutdown Input, Active Low. This pin is used to put the LTC3025-X into shutdown. The S\H\D\N\ pin current is typically less than 10nA. The S\H\D\N\ pin cannot be left floating and must be tied to a valid logic level (such as (See Datasheet)", 7 EP (power) "Ground and Heat Sink. Must be soldered to PCB ground plane or large pad for optimal thermal performance."

## LTC3025EDC-2#TRPBF
designator U?
500 mA Micropower VLDO Linear Regulator, 1.4 to 5.5 V Vin, 1.2 V Vout, 6-pin SON (DC6-6), -40 to 125 degC, Pb-Free, Tape and Reel; Manufacturer: Linear Technology; PartNumber: LTC3025EDC-2#TRPBF; Discrete Pass Element: no; Dropout Voltage(V): 0.085; Iout(mA): 500; Isupply(mA): 0.05; Noise(uV): 80; Number of Outputs: 1; Output Voltage: 1.2 V; Vin Max(V): 5.5; Vin Min(V): 1.4; DatasheetVersion: Rev. F; PackageVersion: Rev. B, 06/2010; PackageReference: DC6-6; PackageDescription: 6-Pin Plastic DFN, Body 2 x 2 mm, Pitch 0.5 mm; Supplier 1: Digi-Key; Supplier Part Number 1: LTC3025EDC-2#TRPBF-ND; Supplier 2: Newark; Supplier Part Number 2: 75M4514; Packing: Tape and Reel; RoHS: TRUE; Shutdown Current(uA): 1; Mounting Technology: Surface Mount; Code_JEDEC: MO-229; ComponentLink1Description: Manufacturer URL; ComponentLink1URL: http://www.linear.com/; ComponentLink2Description: Datasheet; ComponentLink2URL: http://cds.linear.com/docs/en/datasheet/30251234ff.pdf; ComponentLink3Description: Package Specification; ComponentLink3URL: http://cds.linear.com/docs/en/packaging/DFN_6_05-08-1703.pdf
footprint LT-DC6-6_V (SON, 6-Leads, Body 2x2mm, Pitch 0.5mm, Thermal Pad 1.42x0.61mm)
pins: 1 BIAS (power) "BIAS Input Voltage. BIAS provides internal power for LTC3025-X circuitry. The BIAS pin should be locally bypassed to ground if the LTC3025-X is more than a few inches away from another source of bulk capacitance. In general, (See Datasheet)", 2 GND (power) "Ground. Connect to a ground plane.", 3 IN (power) "Input Supply Voltage. The output load current is supplied directly from IN. The IN pin should be locally bypassed to ground if the LTC3025-X is more than a few inches away from another source of bulk capacitance. In general, (See Datasheet)", 4 OUT (power) "Regulated Output Voltage. The OUT pin supplies power to the load. A minimum ceramic output capacitor of at least 1uF is required to ensure stability. Larger output capacitors may be required for applications with large (See Datasheet)", 5 SENSE (in) "Output Sense. The sense is the input to the resistor divider driving the error amplifier. Optimum regulation will be obtained at the point where SENSE is connected to OUT. The SENSE pin bias current is 10uA at the nominal (See Datasheet)", 6 ~{SHDN} (in) "Shutdown Input, Active Low. This pin is used to put the LTC3025-X into shutdown. The S\H\D\N\ pin current is typically less than 10nA. The S\H\D\N\ pin cannot be left floating and must be tied to a valid logic level (such as (See Datasheet)", 7 EP (power) "Ground and Heat Sink. Must be soldered to PCB ground plane or large pad for optimal thermal performance."